# Altium footprint library openmv-ae3.PcbLib: 66 footprints (part 5 of 5)
Each footprint in its own frame and in the unit in brackets; x right, y up, seen from the top. Pads: shape width x height; smd on the part's side, far side on the other; paste and mask are expansions set on the pad; w line width, h text height; cw(c..) or ccw(c..) is an arc to the next point about the centre after c.
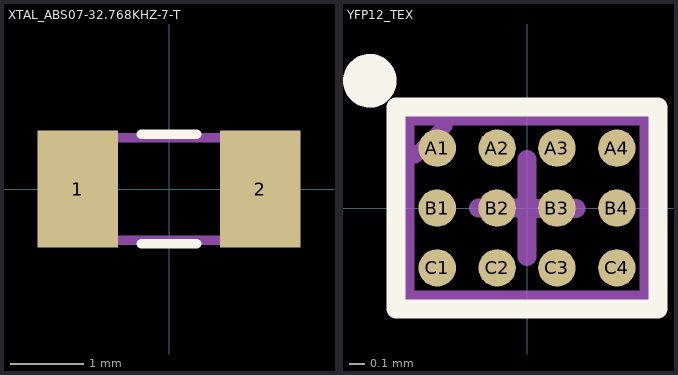
[diagram p4: the footprints below, top view; thin cyan lines are the x and y axes]

## XTAL_ABS07-32.768KHZ-7-T [mm] "XTAL_ABS07-32.768KHZ-7-T"
pads (2):
  rect 1.1x1.6 smd: 1(-1.25,0) 2(1.25,0)
Top Overlay:
  lines w0.127: -0.38,-0.75 0.38,-0.75 ; -0.38,0.75 0.38,0.75
Top 3D Body:
  lines w0.127: -1.6,-0.7 1.6,-0.7 1.6,0.7 -1.6,0.7 -1.6,-0.7
  text ".designator" at -1.4,-0.85 h0.64
3D body: height 1, standoff 0, extent -1.6,-0.7 1.6,0.7

## YFP12_TEX [mm]
pads (12):
  round 0.25 smd paste+0 mask+0: A1(-0.6,0.4) A2(-0.2,0.4) A3(0.2,0.4) A4(0.6,0.4) B1(-0.6,0) B2(-0.2,0) B3(0.2,0) B4(0.6,0) C1(-0.6,-0.4) C2(-0.2,-0.4) C3(0.2,-0.4) C4(0.6,-0.4)
Top Overlay:
  circle w0.2: c-1.05,0.85 r0.079
  lines w0.127: -0.875,-0.675 -0.875,0.675 0.875,0.675 0.875,-0.675 -0.875,-0.675
Top 3D Body:
  lines w0.1: -0.748,0.347 -0.548,0.547 ; -0.8,-0.6 0.8,-0.6 0.8,0.6 -0.8,0.6 -0.8,-0.6
  lines w0.127: -0.325,0 0,0 ; 0,-0.325 0,0 ; 0,0.325 0,0 ; 0.002,-0.003 0.327,-0.003
  text ".designator" at -0.825,-1.71 h0.76
3D body: height 0.5, standoff 0, extent -0.8,-0.6 0.8,0.6